# EAGLE library part LCD_16X2_R2 (library equinox)
Supplier: info <info@huaxinjin.com> Model: 1602C-1
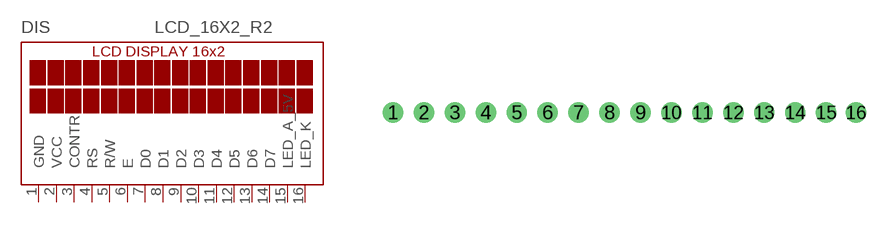
[diagram p7: symbol with the pads of LCD_16X2_R2; footprint LCD_16X2_R2]

Designator prefix DIS

## LCD_16X2_R2 (OC_FARNELL: unknown; OC_NEWARK: unknown)  [LCD_16X2_R2]
1  GND  pwr
2  VCC  pwr
3  CONTR  in
4  RS  in
5  R/W  in
6  E  in
7  D0  in
8  D1  in
9  D2  in
10  D3  in
11  D4  in
12  D5  in
13  D6  in
14  D7  in
15  LED_A_5V
16  LED_K

## Footprint LCD_16X2_R2 (pad centres in mm)
info@huaxinjin.com 1602C-1
drill 1 pad 1.676: 1 8,2.5; 2 10.54,2.5; 3 13.08,2.5; 4 15.62,2.5; 5 18.16,2.5; 6 20.7,2.5; 7 23.24,2.5; 8 25.78,2.5; 9 28.32,2.5; 10 30.86,2.5; 11 33.4,2.5; 12 35.94,2.5; 13 38.48,2.5; 14 41.02,2.5; 15 43.56,2.5; 16 46.01,2.5